# EAGLE library part CON06 (library Connectors)
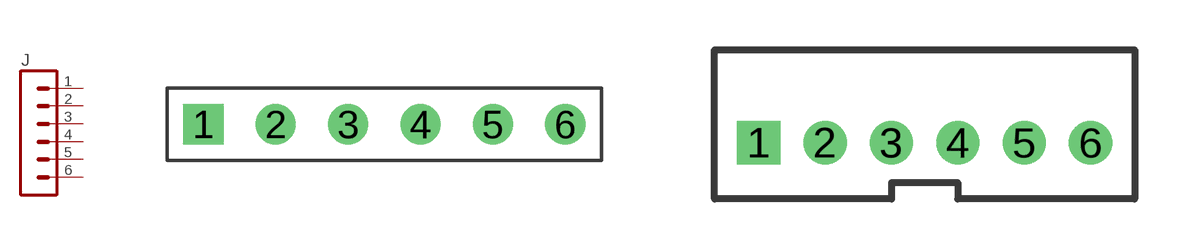
[diagram p3: symbol with the pads of CON06_PTH; footprints CON06_PTH, JST06_PTH_90]

Designator prefix J

## CON06PTH  [CON06_PTH]
1  1  pas
2  2  pas
3  3  pas
4  4  pas
5  5  pas
6  6  pas

## CON06JST_PTH  [JST06_PTH_90]
Pads as for CON06_PTH

## Footprint CON06_PTH (pad centres in mm)
drill 0.9 square: 1 -6.35,0
drill 0.9: 2 -3.81,0; 3 -1.27,0; 4 1.27,0; 5 3.81,0; 6 6.35,0

## Footprint JST06_PTH_90 (pad centres in mm)
drill 0.8 square: 1 -5,0
drill 0.8: 2 -3,0; 3 -1,0; 4 1,0; 5 3,0; 6 5,0